# Altium footprint library Enc_ALPS_EC11E15244B2_eec_0.PcbLib: 1 footprints
Each footprint in its own frame and in the unit in brackets; x right, y up, seen from the top. Pads: shape width x height; smd on the part's side, far side on the other; paste and mask are expansions set on the pad; w line width, h text height; cw(c..) or ccw(c..) is an arc to the next point about the centre after c.
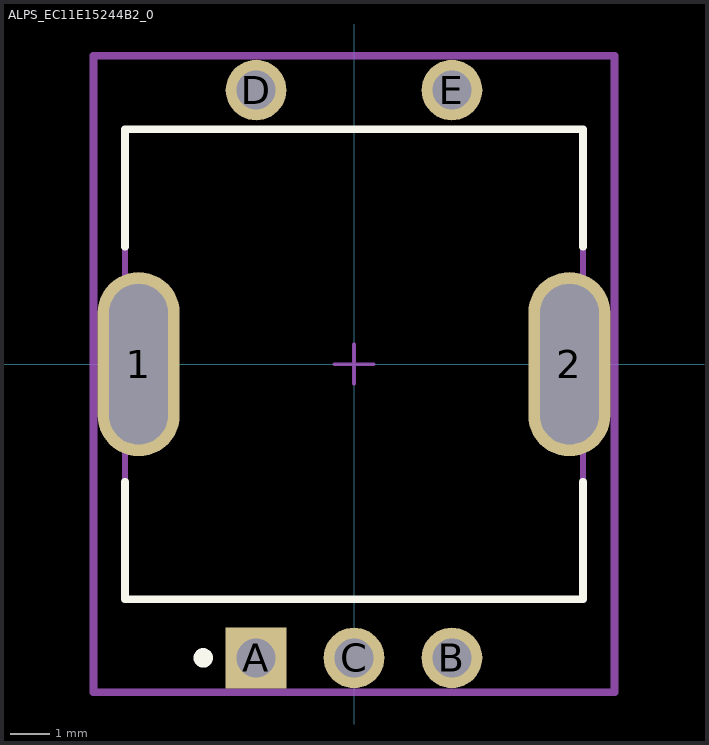
[diagram p0: the footprint, top view; thin cyan lines are the x and y axes]

## ALPS_EC11E15244B2_0 [mm]
pads (7):
  oval 2.1x4.7 hole 4.1 slot 1.5 at 0 deg paste-1000 mask+0: 1(-5.5,0) 2(5.5,0)
  rect 1.55x1.55 hole 1 paste-1000 mask+0: A(-2.5,-7.5)
  round 1.55 hole 1 paste-1000 mask+0: B(2.5,-7.5) C(0,-7.5) D(-2.5,7) E(2.5,7)
Top Overlay:
  circle w0.25: c-3.85,-7.5 r0.125
  lines w0.2: -5.85,-3 -5.85,-6 5.85,-6 5.85,-3 ; -5.85,3 -5.85,6 5.85,6 5.85,3
Mechanical 10:
  lines w0.2: -6.65,-8.375 6.65,-8.375 6.65,7.875 -6.65,7.875 -6.65,-8.375
  text ".Designator" at 0,-0.25 h1
Mechanical 12:
  lines w0.15: -5.85,-6 5.85,-6 5.85,6 -5.85,6 -5.85,-6
Mechanical 15:
  lines w0.1: -0.5,0 0.5,0 ; 0,-0.5 0,0.5
  lines w0.2: -6.65,-8.375 6.65,-8.375 6.65,7.875 -6.65,7.875 -6.65,-8.375
3D body "3dmodel.step": height 0.25, standoff 0, extent -6.65,-8.375 6.65,7.875